# Altium schematic symbol library 晶体.SchLib: 10 symbols
Pins are listed as number, name and electrical type; pins without a type are passive.

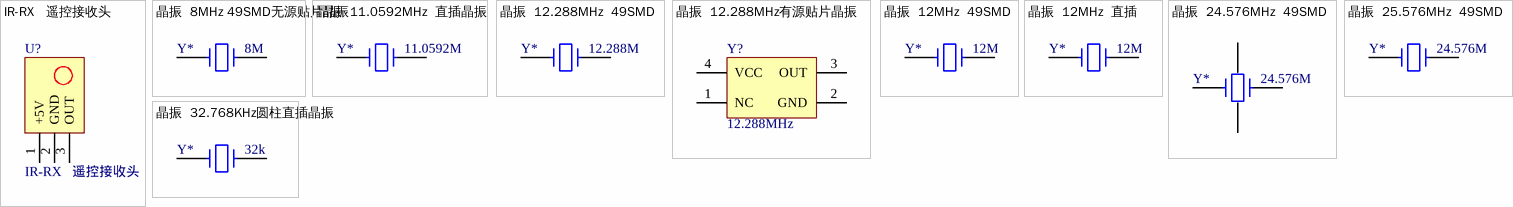
[diagram p0: symbols IR-RX   遥控接收头 to 晶振  32.768KHz圆柱直插晶振]

## IR-RX   遥控接收头
designator U?
遥控接收头 小体积; 物料代码: 3.01.04.01.0007; 物料名称: CH1838遥控接收头; 助记码: CH1838YKJST; 单位: 只; 仓库名称: 元件仓; 加工方式: 插件; 备注: *
footprint HS0038
pins: 1 +5V, 2 GND, 3 OUT
2 alternate drawings of the same symbol

## 晶振  8MHz 49SMD无源贴片晶振
designator Y*, comment 8M
8MHz 49SMD无源贴片晶振; 物料代码: 3.01.07.02.0003; 助记码: 8MHZ 49SMDWYTPJZ; 仓库名称: 元件仓; 单位: 只; 规格型号: 二脚 20PPM; 加工方式: 贴片; 物料名称: 8MHZ 49SMD无源贴片晶振
footprint 晶振   4*8
pins: 1, 2

## 晶振  11.0592MHz  直插晶振
designator Y*, comment 11.0592M
（未入库）11.0592MHz; 仓库名称: 元件仓; 单位: 只; 加工方式: 插件
footprint XTAL(HC-49)
pins: 1, 2

## 晶振  12.288MHz  49SMD
designator Y*, comment 12.288M
（未入库）12.288MHz  49SMD; 仓库名称: 元件仓; 单位: 只; 加工方式: 贴片
footprint 晶振   4*8
pins: 1, 2

## 晶振  12.288MHz有源贴片晶振
designator Y?, comment 12.288MHz
12.288MHz有源贴片晶振; 物料代码: 3.01.07.02.0002; 加工方式: 贴片; 助记码: 5070 四脚 20PPM; 规格型号: 12.288MHZYYTPJZ; 单位: 只; 仓库名称: 元件仓; 物料名称: 12.288MHZ有源贴片晶振; 备注: *
footprint 晶振   有源7050
pins: 1 NC, 2 GND, 3 OUT, 4 VCC

## 晶振  12MHz  49SMD
designator Y*, comment 12M
（未入库）12MHz  49SMD; 仓库名称: 元件仓; 单位: 只; 加工方式: 贴片
footprint 晶振   4*8
pins: 1, 2

## 晶振  12MHz  直插
designator Y*, comment 12M
（未入库）12MHz  直插; 仓库名称: 元件仓; 单位: 只; 加工方式: 插件
footprint XTAL(HC-49)
pins: 1, 2

## 晶振  24.576MHz  49SMD
designator Y*, comment 24.576M
（未入库）25.576MHz  49SMD; 仓库名称: 元件仓; 单位: 只; 加工方式: 贴片
footprint 晶振   有源7050
pins: 1, 2, 3, 4

## 晶振  25.576MHz  49SMD
designator Y*, comment 24.576M
（未入库）25.576MHz  49SMD; 仓库名称: 元件仓; 单位: 只; 加工方式: 贴片
footprint 晶振   4*8
pins: 1, 2

## 晶振  32.768KHz圆柱直插晶振
designator Y*, comment 32k
32.768KHz圆柱直插晶振; 物料代码: 3.01.07.01.0003; 助记码: 3*8 10PPM; 规格型号: 32.768KHzYZZCJZ; 仓库名称: 元件仓; 单位: 只; 加工方式: 插件; 物料名称: 32.768KHz圆柱直插晶振; 备注: *
footprint 晶振   圆柱型3*8mm (3*8MM)
pins: 1, 2